# EAGLE library part IC-TTL-DUAL-74-245 (library mylib)
IC-TTL-DUAL-74-245 : DUAL-BIT DUAL-SUPPLY BUS TRANSCEIVER w/ Configurable Voltage Translation and 3-State Outputs Packages : -DIP : 2.54 x 8 x 300mil -FLAT : 0.65 x 8 x 160mil
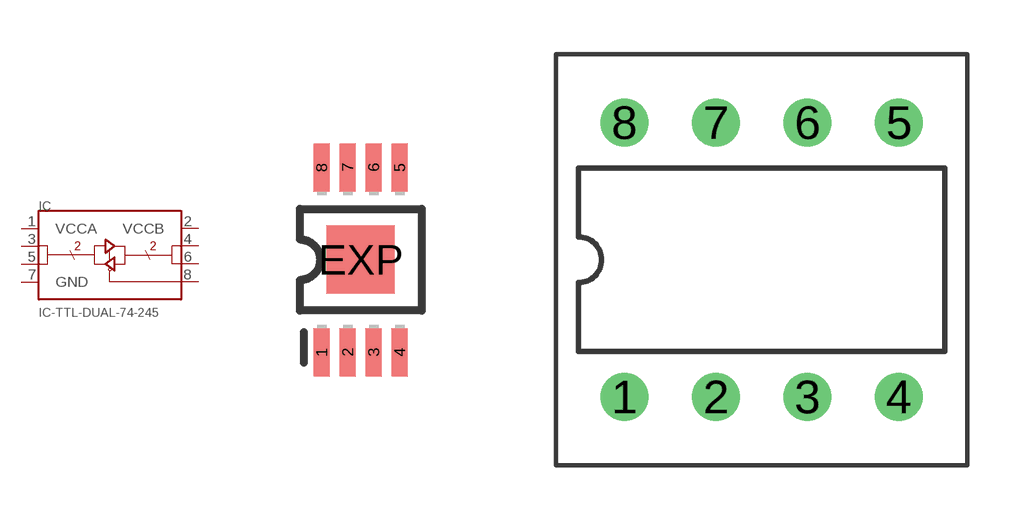
[diagram p68: symbol with the pads of IC-08-0.65-160MIL-EP; footprints IC-08-0.65-160MIL-EP, BOARD-HENKAN-DIP08]

Designator prefix IC

## IC-TTL-DUAL-74-245-FLAT  [IC-08-0.65-160MIL-EP]
1  VCCA  pwr
2  VCCB  pwr
3  A1
4  B1
5  A2
6  B2
7  GND  pwr
8  DIR  in

## IC-TTL-DUAL-74-245-HENKAN  [BOARD-HENKAN-DIP08]
Pads as for IC-08-0.65-160MIL-EP

## Footprint IC-08-0.65-160MIL-EP (pad centres in mm)
Mini Small Outline Package
smd 0.4 x 1.2: 1 -0.976,-2.313; 2 -0.326,-2.313; 3 0.324,-2.313; 4 0.974,-2.313; 5 0.974,2.312; 6 0.324,2.312; 7 -0.326,2.312; 8 -0.976,2.312
smd 1.7 x 1.7: EXP 0,0

## Footprint BOARD-HENKAN-DIP08 (pad centres in mm)
drill 0.813: 1 -3.81,-3.81; 2 -1.27,-3.81; 3 1.27,-3.81; 4 3.81,-3.81; 5 3.81,3.81; 6 1.27,3.81; 7 -1.27,3.81; 8 -3.81,3.81